# Altium integrated library 1-2199230-5.IntLib: 1 symbol
Pins are listed as number, name and electrical type; pins without a type are passive.

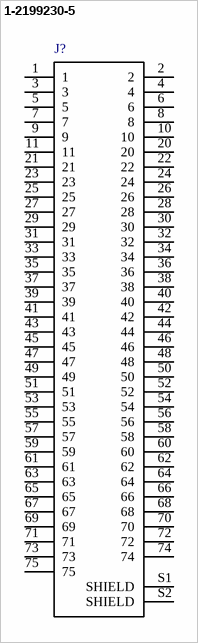
[diagram p0: symbol 1-2199230-5]

## 1-2199230-5
designator J?  (value not drawn)
Conn Edge Dual Fmale 67pos 0.020; MF: TE Connectivity; TE_purchase_URL: https://www.te.com/usa-en/product-1-2199230-5.html?te_bu=Cor&te_type=disp&te_campaign=seda_glo_cor-seda-global-disp-prtnr-fy19-seda-model-bom-cta_sma-317_1&elqCampaignId=32493; Availability: Unavailable; EU_RoHS_Compliance: Compliant; Price: None; MP: 1-2199230-5; Package: None; SnapEDA_Link: https://www.snapeda.com/parts/1-2199230-5/TE%20Connectivity%20AMP%20Connectors/view-part/?ref=snap; Value: *
footprint *CONN_1-2199230-5_1-2199230-5(Primary)
pins: 1, 2, 3, 4, 5, 6, 7, 8, 9, 10, 11, 20, 21, 22, 23, 24, 25, 26, 27, 28, 29, 30, 31, 32, 33, 34, 35, 36, 37, 38, 39, 40, 41, 42, 43, 44, 45, 46, 47, 48, 49, 50, 51, 52, 53, 54, 55, 56, 57, 58, 59, 60, 61, 62, 63, 64, 65, 66, 67, 68, 69, 70, 71, 72, 73, 74, 75, S1 SHIELD, S2 SHIELD